# EAGLE library part 26P (library con-degson)
DEGSON DG55 CONNECTOR
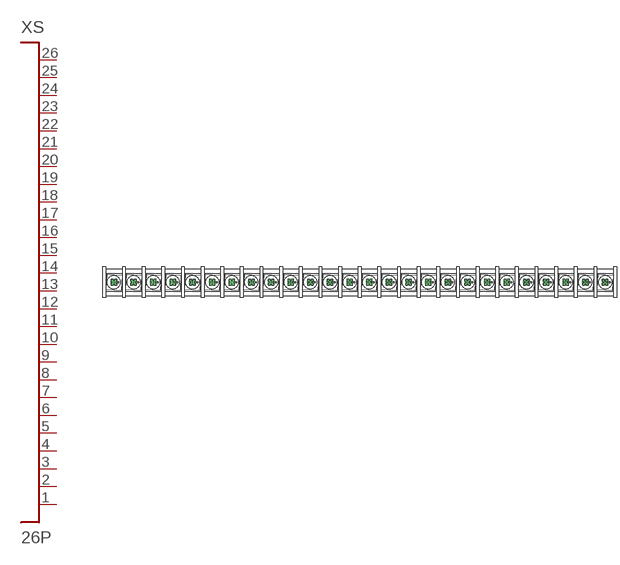
[diagram p20: symbol with the pads of DG55CB-26P-1; footprint DG55CB-26P-1]

Designator prefix XS

## 26P  [DG55CB-26P-1]
1  P$1
2  P$2
3  P$3
4  P$4
5  P$5
6  P$6
7  P$7
8  P$8
9  P$9
10  P$10
11  P$11
12  P$12
13  P$13
14  P$14
15  P$15
16  P$16
17  P$17
18  P$18
19  P$19
20  P$20
21  P$21
22  P$22
23  P$23
24  P$24
25  P$25
26  P$26

## Footprint DG55CB-26P-1 (pad centres in mm)
DG55
drill 1.8 pad 3.6: 1 -125,0; 2 -115,0; 3 -105,0; 4 -95,0; 5 -85,0; 6 -75,0; 7 -65,0; 8 -55,0; 9 -45,0; 10 -35,0; 11 -25,0; 12 -15,0; 13 -5,0; 14 5,0; 15 15,0; 16 25,0; 17 35,0; 18 45,0; 19 55,0; 20 65,0; 21 75,0; 22 85,0; 23 95,0; 24 105,0; 25 115,0; 26 125,0